# Altium integrated library Aluminum Capacitor.IntLib: 13 symbols
Pins are listed as number, name and electrical type; pins without a type are passive.

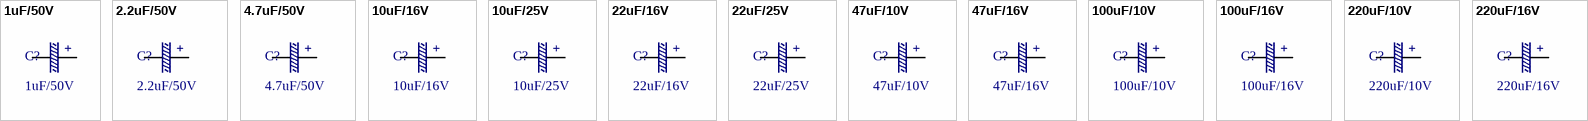
[diagram p0: symbols 1uF/50V to 220uF/16V]

## 1uF/50V
designator C?
Aluminum Capacitor 1uF/50V 4mm
footprint ALUMINUM_4mm (ALUMINUM CAPACITOR 4mm)
pins: 1, 2
text: +

## 2.2uF/50V
designator C?
Aluminum Capacitor 2.2uF/50V 4mm
footprint ALUMINUM_4mm (ALUMINUM CAPACITOR 4mm)
pins: 1, 2
text: +

## 4.7uF/50V
designator C?
Aluminum Capacitor 4.7uF/50V 4mm
footprint ALUMINUM_4mm (ALUMINUM CAPACITOR 4mm)
pins: 1, 2
text: +

## 10uF/16V
designator C?
Aluminum Capacitor 10uF/16V 4mm
footprint ALUMINUM_4mm (ALUMINUM CAPACITOR 4mm)
pins: 1, 2
text: +

## 10uF/25V
designator C?
Aluminum Capacitor 10uF/25V 4mm
footprint ALUMINUM_4mm (ALUMINUM CAPACITOR 4mm)
pins: 1, 2
text: +

## 22uF/16V
designator C?
Aluminum Capacitor 22uF/16V 4mm
footprint ALUMINUM_4mm (ALUMINUM CAPACITOR 4mm)
pins: 1, 2
text: +

## 22uF/25V
designator C?
Aluminum Capacitor 22uF/25V 5mm
footprint ALUMINUM_5mm (ALUMINUM CAPACITOR 5mm)
pins: 1, 2
text: +

## 47uF/10V
designator C?
Aluminum Capacitor 47uF/10V 4mm
footprint ALUMINUM_4mm (ALUMINUM CAPACITOR 4mm)
pins: 1, 2
text: +

## 47uF/16V
designator C?
Aluminum Capacitor 47uF/16V 5mm
footprint ALUMINUM_5mm (ALUMINUM CAPACITOR 5mm)
pins: 1, 2
text: +

## 100uF/10V
designator C?
Aluminum Capacitor 100uF/10V 5mm
footprint ALUMINUM_5mm (ALUMINUM CAPACITOR 5mm)
pins: 1, 2
text: +

## 100uF/16V
designator C?
Aluminum Capacitor 100uF/16V 7mm
footprint ALUMINUM_7mm (ALUMINUM CAPACITOR 7mm)
pins: 1, 2
text: +

## 220uF/10V
designator C?
Aluminum Capacitor 220uF/10V 7mm
footprint ALUMINUM_7mm (ALUMINUM CAPACITOR 7mm)
pins: 1, 2
text: +

## 220uF/16V
designator C?
Aluminum Capacitor 220uF/16V 7mm
footprint ALUMINUM_7mm (ALUMINUM CAPACITOR 7mm)
pins: 1, 2
text: +